# Altium schematic symbol library Mosfet SMD.SchLib: 4 symbols
Pins are listed as number, name and electrical type; pins without a type are passive.

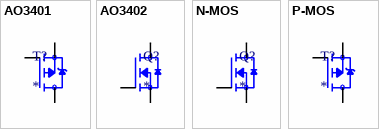
[diagram p0: symbols AO3401 to P-MOS]

## AO3401
designator T?
P-Channel 30 V 4A (Ta) 1.4W (Ta) Surface Mount SOT-23-3; MP: AO3401A; MF: Alpha & Omega Semiconductor Inc.; Value: *; SnapEDA_Link: https://www.snapeda.com/parts/AO3401A/Alpha+%2526+Omega+Semiconductor+Inc./view-part/?ref=snap; Purchase-URL: https://pricing.snapeda.com/search/part/AO3401A/?ref=eda; Check_prices: https://www.snapeda.com/parts/AO3401A/Alpha+%2526+Omega+Semiconductor+Inc./view-part/?ref=eda; Availability: In Stock; Price: None; Package: TO-236-3 Alpha &amp; Omega Semiconductor Inc.
footprint AO3401
pins: 1 G, 2 S, 3 D

## AO3402
designator Q?
N-Channel 30V 4A _Ta_ 1.4W _Ta_ Surface Mount SOT-23-3L; MP: AO3402; MF: Alpha &; Digi-Key_Purchase_URL: https://www.digikey.ca/product-detail/en/alpha-omega-semiconductor-inc/AO3402/785-1002-1-ND/1855944?utm_source=snapeda&utm_medium=aggregator&utm_campaign=symbol; Value: *; Package: SOT-23 Alpha &amp; Omega Semiconductor; SnapEDA_Link: https://www.snapeda.com/parts/AO3402/Alpha%20&%20Omega%20Semiconductor%20Inc./view-part/564857/?ref=snap; Digi-Key_Part_Number: 785-1002-1-ND
footprint AO3402
pins: 1 G, 2 S, 3 D

## N-MOS
designator Q?
D-PAK; MP: AO3402; MF: Alpha &; Digi-Key_Purchase_URL: https://www.digikey.ca/product-detail/en/alpha-omega-semiconductor-inc/AO3402/785-1002-1-ND/1855944?utm_source=snapeda&utm_medium=aggregator&utm_campaign=symbol; Value: *; Package: SOT-23 Alpha &amp; Omega Semiconductor; SnapEDA_Link: https://www.snapeda.com/parts/AO3402/Alpha%20&%20Omega%20Semiconductor%20Inc./view-part/564857/?ref=snap; Digi-Key_Part_Number: 785-1002-1-ND
footprint DPAK - MOSFET
pins: 1 G, 2 S, 3 D

## P-MOS
designator T?
D-PAK; MP: AO3401A; MF: Alpha & Omega Semiconductor Inc.; Value: *; SnapEDA_Link: https://www.snapeda.com/parts/AO3401A/Alpha+%2526+Omega+Semiconductor+Inc./view-part/?ref=snap; Purchase-URL: https://pricing.snapeda.com/search/part/AO3401A/?ref=eda; Check_prices: https://www.snapeda.com/parts/AO3401A/Alpha+%2526+Omega+Semiconductor+Inc./view-part/?ref=eda; Availability: In Stock; Price: None; Package: TO-236-3 Alpha &amp; Omega Semiconductor Inc.
footprint DPAK - MOSFET
pins: 1 G, 2 S, 3 D